# Altium integrated library AD8542ARZ.IntLib: 1 symbol
Pins are listed as number, name and electrical type; pins without a type are passive.

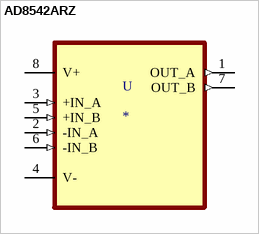
[diagram p0: symbol AD8542ARZ]

## AD8542ARZ
designator U
General Purpose Amplifier 2 Circuit Rail-to-Rail 8-SOIC; MF: Analog Devices; MP: AD8542ARZ; Price: None; Availability: Unavailable; SnapEDA_Link: https://www.snapeda.com/parts/AD8542ARZ/Analog%20Devices%20Inc./view-part/485359/?ref=snap; Value: *; DigiKey-Purchase-URL: https://snapeda.com/shop?store=DigiKey&id=485359; Package: SOIC-8 Analog Devices
footprint SOIC127P600X175-8N
pins: 1 OUT_A (out), 2 -IN_A (in), 3 +IN_A (in), 4 V- (power), 5 +IN_B (in), 6 -IN_B (in), 7 OUT_B (out), 8 V+ (power)